# EAGLE library part MCP4131_DIGI-POT (library Tristan+Robitaille_s+Library)
7-Bit Single SPI Digital Pot with Volatile Memory Technical specifications: 129 steps RAB resistance: 5kΩ, 10kΩ, 50kΩ or 100kΩ Input voltage range: 2.7V to 5.5V Current draw: 450µA @ 5.5V Wiper resistance: 75Ω Datasheet <http://ww1.microchip.com/downloads/en/DeviceDoc/22060b.pdf> Digi-Key part #: MCP4131-103E/SN-ND <http://www.digikey.ca/product-detail/en/microchip-technology/MCP4131-103E-SN/MCP4131-103E-SN-ND/1874320> Mouser part #:579-MCP4131-103E/SN <http://ca.mouser.com/ProductDetail/Microchip-Technology/MCP4131-103E-SN/?qs=sGAEpiMZZMuD%2f7PTYBwKqfDph4xMc6S2RFrRL2z3%2fe0%3d> Manufacturer part #: MCP4131-103E/SN
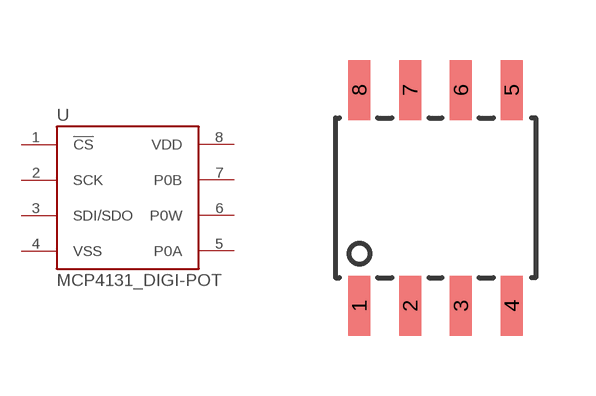
[diagram p12: symbol with the pads of SOIC8; footprint SOIC8]

Designator prefix U

## MCP4131_DIGI-POT (DIGIKEY#: MCP4131-103E/SN-ND; MANF: MCP4131 SPI Digi Pot; MANF#: MCP4131-103E/SN; MOUSER#: 579-MCP4131-103E/SN)  [SOIC8]
1  !CS  in
2  SCK  in
3  SDI/SDO
4  VSS  pwr
5  P0A
6  P0W
7  P0B
8  VDD  pwr

## Footprint SOIC8 (pad centres in mm)
Small Outline IC
smd 0.55 x 1.5: 1 -1.905,-2.7; 2 -0.635,-2.7; 3 0.635,-2.7; 4 1.905,-2.7; 5 1.905,2.7; 6 0.635,2.7; 7 -0.635,2.7; 8 -1.905,2.7